# Altium schematic symbol library misc_logo.SchLib: 1 symbol
Pins are listed as number, name and electrical type; pins without a type are passive.

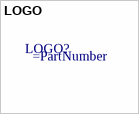
[diagram p0: symbol LOGO]

## LOGO
designator LOGO?  (no BOM)